# Altium integrated library Mechanical - Standoffs.IntLib: 15 symbols
Pins are listed as number, name and electrical type; pins without a type are passive.

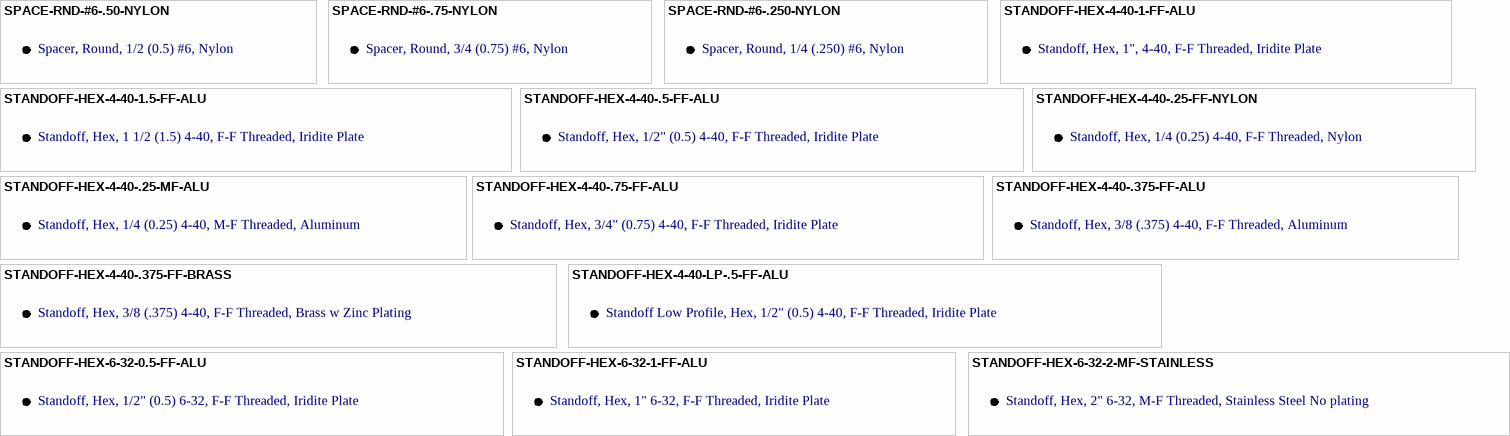
[diagram p0: symbols SPACE-RND-#6-.50-NYLON to STANDOFF-HEX-6-32-2-MF-STAINLESS]

## SPACE-RND-#6-.50-NYLON
designator ZSO?, comment 884 Keystone  (value not drawn)  (mechanical)
Spacer, Round, 1/2 (0.5) #6, Nylon; Manufacturer: Keystone Electronics; Part Number: 886; Between Board Height: 1/2" (0.5); Features: -; Material: Nylon; Style: Round; Gender: N/A; Threaded/Unthreaded: N/A; Supplier 1: Digi-Key; Supplier Part Number 1: 36-884-ND; Supplier 2: Mouser; Supplier Part Number 2: 534-884; Supplier 3: Allied; Supplier Part Number 3: 70182143

## SPACE-RND-#6-.75-NYLON
designator ZSO?, comment 888 Keystone  (value not drawn)  (mechanical)
Spacer, Round, 3/4 (0.75) #6, Nylon; Manufacturer: Keystone Electronics; Part Number: 888; Between Board Height: 3/4" (0.75); Features: -; Material: Nylon; Style: Round; Gender: N/A; Threaded/Unthreaded: N/A; Supplier 1: Allied; Supplier Part Number 1: 70182147; Supplier 2: Mouser; Supplier Part Number 2: 534-888; Supplier 3: Digi-Key; Supplier Part Number 3: 36-888-ND

## SPACE-RND-#6-.250-NYLON
designator ZSO?, comment 884 Keystone  (value not drawn)  (mechanical)
Spacer, Round, 1/4 (.250) #6, Nylon; Manufacturer: Keystone Electronics; Part Number: 884; Between Board Height: 1/4" (.250); Gender: N/S; Features: -; Material: Nylon; Style: Round; Threaded/Unthreaded: N/A; Supplier 1: Digi-Key; Supplier Part Number 1: 36-884-ND; Supplier 2: Allied; Supplier Part Number 2: 70182143; Supplier 3: Mouser; Supplier Part Number 3: 534-884

## STANDOFF-HEX-4-40-1-FF-ALU
designator ZSO?, comment 2205 keystone  (value not drawn)  (mechanical)
Standoff, Hex, 1", 4-40, F-F Threaded, Iridite Plate; Manufacturer: Keystone Electronics; Part Number: 2205; Gender: Female, Female; Features: Iridite Plating; Material: Aluminum; Between Board Height: 1"; Style: Hex; Threaded/Unthreaded: Threaded; Supplier 1: Mouser; Supplier Part Number 1: 534-2205; Supplier 2: Allied; Supplier Part Number 2: 70181892; Supplier 3: Digi-Key; Supplier Part Number 3: 36-2205-ND

## STANDOFF-HEX-4-40-1.5-FF-ALU
designator ZSO?, comment 2206 keystone  (value not drawn)  (mechanical)
Standoff, Hex, 1 1/2 (1.5) 4-40, F-F Threaded, Iridite Plate; Manufacturer: Keystone Electronics; Part Number: 2206; Between Board Height: 1 1/2"; Gender: Female, Female; Features: Iridite Plating; Material: Aluminum; Style: Hex; Threaded/Unthreaded: Threaded; Supplier 1: Mouser; Supplier Part Number 1: 534-2206; Supplier 2: Allied; Supplier Part Number 2: 70181893; Supplier 3: Digi-Key; Supplier Part Number 3: 36-2206-ND

## STANDOFF-HEX-4-40-.5-FF-ALU
designator ZSO?, comment 2203 keystone  (value not drawn)  (mechanical)
Standoff, Hex, 1/2" (0.5) 4-40, F-F Threaded, Iridite Plate; Manufacturer: Keystone Electronics; Part Number: 2203; Between Board Height: 0.5"; Gender: Female, Female; Features: -; Material: Aluminum; Style: Hex; Threaded/Unthreaded: Threaded; Supplier 1: Newark; Supplier Part Number 1: 62W4986; Supplier 2: Mouser; Supplier Part Number 2: 534-2203; Supplier 3: Digi-Key; Supplier Part Number 3: 36-2203-ND; Supplier 4: Allied; Supplier Part Number 4: 70181890

## STANDOFF-HEX-4-40-.25-FF-NYLON
designator ZSO?, comment 1902A keystone  (value not drawn)  (mechanical)
Standoff, Hex, 1/4 (0.25) 4-40, F-F Threaded, Nylon; Manufacturer: Keystone Electronics; Between Board Height: 1/4"; Style: Hex Standoff; Gender: Female, Female; Features: -; Material: Nylon; Part Number: 1902A; Supplier 1: Digi-Key; Supplier Part Number 1: 36-1892-ND; Supplier 2: Allied; Supplier Part Number 2: 70181860; Supplier 3: Newark; Supplier Part Number 3: 51B251; Supplier 4: Mouser; Supplier Part Number 4: 534-1892; Threaded/Unthreaded: Threaded

## STANDOFF-HEX-4-40-.25-MF-ALU
designator ZSO?, comment 8714 keystone  (value not drawn)  (mechanical)
Standoff, Hex, 1/4 (0.25) 4-40, M-F Threaded, Aluminum; Manufacturer: Keystone Electronics; Part Number: 8714; Between Board Height: 1/4"; Style: Hex Standoff; Gender: Female, Female; Features: -; Material: Aluminum; Threaded/Unthreaded: Threaded; Supplier 1: Allied; Supplier Part Number 1: 70181970; Supplier 2: Mouser; Supplier Part Number 2: 534-8714; Supplier 3: Newark; Supplier Part Number 3: 50F4709; Supplier 4: Digi-Key; Supplier Part Number 4: 36-8714-ND

## STANDOFF-HEX-4-40-.75-FF-ALU
designator ZSO?, comment 1808 keystone  (value not drawn)  (mechanical)
Standoff, Hex, 3/4" (0.75) 4-40, F-F Threaded, Iridite Plate; Manufacturer: Keystone Electronics; Part Number: 1808; Between Board Height: 0.75"; Gender: Female, Female; Features: -; Material: Aluminum; Style: Hex; Threaded/Unthreaded: Threaded; Supplier 1: Allied; Supplier Part Number 1: 70182134; Supplier 2: Mouser; Supplier Part Number 2: 534-1808; Supplier 3: Digi-Key; Supplier Part Number 3: 36-1808-ND

## STANDOFF-HEX-4-40-.375-FF-ALU
designator ZSO?, comment 1892 keystone  (value not drawn)  (mechanical)
Standoff, Hex, 3/8 (.375) 4-40, F-F Threaded, Aluminum; Manufacturer: Keystone Electronics; Part Number: 1892; Between Board Height: 3/8"; Style: Hex Standoff; Gender: Female, Female; Features: -; Material: Aluminum; Supplier 1: Digi-Key; Supplier Part Number 1: 36-1892-ND; Supplier 2: Allied; Supplier Part Number 2: 70181860; Supplier 3: Newark; Supplier Part Number 3: 51B251; Supplier 4: Mouser; Supplier Part Number 4: 534-1892; Threaded/Unthreaded: Threaded

## STANDOFF-HEX-4-40-.375-FF-BRASS
designator ZSO?, comment 1450B  (value not drawn)  (mechanical)
Standoff, Hex, 3/8 (.375) 4-40, F-F Threaded, Brass w Zinc Plating; Manufacturer: Keystone Electronics; Between Board Height: 3/8"; Style: Hex Standoff; Gender: Female, Female; Features: Zinc Plating; Material: Brass; Part Number: 1450B; Supplier 1: Allied; Supplier Part Number 1: 70181975; Supplier 2: Mouser; Supplier Part Number 2: 534-1450B; Supplier 3: Newark; Supplier Part Number 3: 62W5547; Supplier 4: Digi-Key; Supplier Part Number 4: 36-1450B-ND; Threaded/Unthreaded: Threaded

## STANDOFF-HEX-4-40-LP-.5-FF-ALU
designator ZSO?, comment 1893 keystone  (value not drawn)  (mechanical)
Standoff Low Profile, Hex, 1/2" (0.5) 4-40, F-F Threaded, Iridite Plate; Manufacturer: Keystone Electronics; Part Number: 1893; Between Board Height: 0.5"; Gender: Female, Female; Features: Low Profile; Material: Aluminum; Style: Hex; Threaded/Unthreaded: Threaded; Supplier 1: Allied; Supplier Part Number 1: 70181861; Supplier 2: Mouser; Supplier Part Number 2: 534-1893; Supplier 3: Digi-Key; Supplier Part Number 3: 36-1893-ND

## STANDOFF-HEX-6-32-0.5-FF-ALU
designator ZSO?, comment 2210 keystone  (value not drawn)  (mechanical)
Standoff, Hex, 1/2" (0.5) 6-32, F-F Threaded, Iridite Plate; Manufacturer: Keystone Electronics; Part Number: 2210; Gender: Female, Female; Features: -; Material: Aluminum; Between Board Height: 1/2"; Style: Hex; Threaded/Unthreaded: Threaded; Supplier 1: Newark; Supplier Part Number 1: 62W4991; Supplier 2: Mouser; Supplier Part Number 2: 534-2210; Supplier 3: Allied; Supplier Part Number 3: 70181896; Supplier 4: Digi-Key; Supplier Part Number 4: 36-2210-ND

## STANDOFF-HEX-6-32-1-FF-ALU
designator ZSO?, comment 2212 keystone  (value not drawn)  (mechanical)
Standoff, Hex, 1" 6-32, F-F Threaded, Iridite Plate; Manufacturer: Keystone Electronics; Part Number: 2212; Gender: Female, Female; Features: -; Material: Aluminum; Between Board Height: 1"; Style: Hex; Threaded/Unthreaded: Threaded; Supplier 1: Digi-Key; Supplier Part Number 1: 36-2212-ND; Supplier 2: Mouser; Supplier Part Number 2: 534-2212; Supplier 3: Allied; Supplier Part Number 3: 70181898; Supplier 4: Newark; Supplier Part Number 4: 52K9607

## STANDOFF-HEX-6-32-2-MF-STAINLESS
designator ZSO?, comment 2131 keystone  (value not drawn)  (mechanical)
Standoff, Hex, 2" 6-32, M-F Threaded, Stainless Steel No plating; Manufacturer: Keystone Electronics; Part Number: 2131; Gender: Male, Female; Features: -; Material: Stainless Steel; Between Board Height: 2"; Style: Hex; Threaded/Unthreaded: Threaded; Supplier 1: Allied; Supplier Part Number 1: 70183102; Supplier 2: Mouser; Supplier Part Number 2: 534-2131; Supplier 3: Digi-Key; Supplier Part Number 3: 36-2131-ND